# EAGLE library part VNL5050S5-E (library STAC)
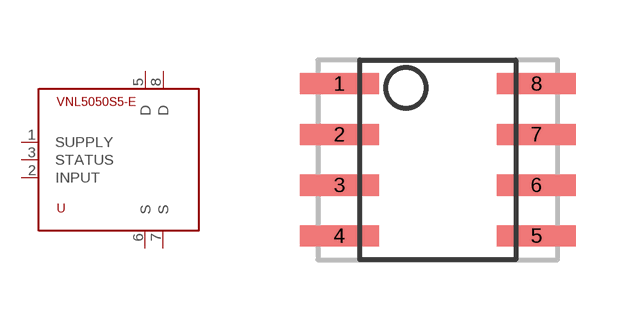
[diagram p13: symbol with the pads of SO-8; footprint SO-8]

Designator prefix U

## VNL5050S5-E  [SO-8]
1  SUPPLY
2  INPUT
3  STATUS
5  D
6  S
7  S
8  D

## Footprint SO-8 (pad centres in mm)
smd 1.98 x 0.53: 1 -2.465,1.905; 2 -2.465,0.635; 3 -2.465,-0.635; 4 -2.465,-1.905; 5 2.465,-1.905; 6 2.465,-0.635; 7 2.465,0.635; 8 2.465,1.905